# EAGLE library part CS4344-DAC (library Strutz Electronic Industries)
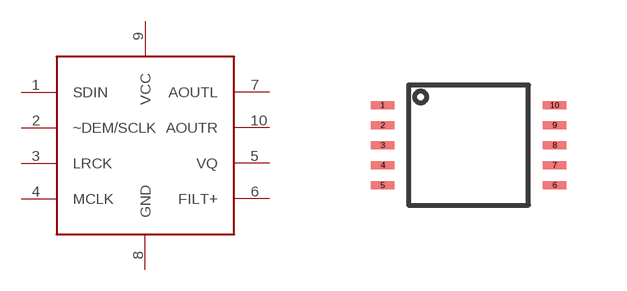
[diagram p22: symbol with the pads of TSSOP-10; footprint TSSOP-10]

Designator prefix -

## CS4344-DAC  [TSSOP-10]
1  SDIN
2  ~DEM/SCLK
3  LRCK
4  MCLK
5  VQ
6  FILT+
7  AOUTL
8  GND
9  VCC
10  AOUTR

## Footprint TSSOP-10 (pad centres in mm)
smd 0.6 x 0.2: 1 -2.15,1; 2 -2.15,0.5; 3 -2.15,0; 4 -2.15,-0.5; 5 -2.15,-1; 6 2.15,-1; 7 2.15,-0.5; 8 2.15,0; 9 2.15,0.5; 10 2.15,1